# EAGLE library part 6510-1 (library commodore)
The famous 6510 CPU. There are some differences between the 6510, 6510-1 and the 6510-2. The -1 and -2 versions have a slightly changed pinout and 2 IO-bits more than the 6510!
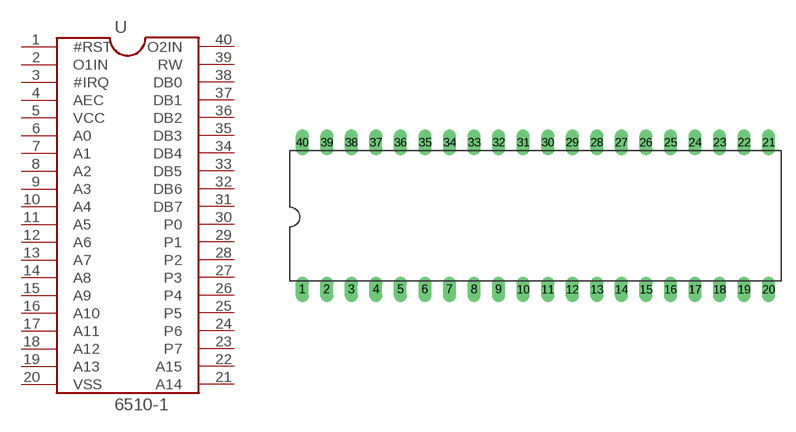
[diagram p13: symbol with the pads of DIL40; footprint DIL40]

Designator prefix -

## 6510-1  [DIL40]
1  #RST
2  O1IN
3  #IRQ
4  AEC
5  VCC
6  A0
7  A1
8  A2
9  A3
10  A4
11  A5
12  A6
13  A7
14  A8
15  A9
16  A10
17  A11
18  A12
19  A13
20  VSS
21  A14
22  A15
23  P7
24  P6
25  P5
26  P4
27  P3
28  P2
29  P1
30  P0
31  DB7
32  DB6
33  DB5
34  DB4
35  DB3
36  DB2
37  DB1
38  DB0
39  RW
40  O2IN

## Footprint DIL40 (pad centres in mm)
Dual In Line Package
drill 0.813 long: 1 -24.13,-7.62; 2 -21.59,-7.62; 3 -19.05,-7.62; 4 -16.51,-7.62; 5 -13.97,-7.62; 6 -11.43,-7.62; 7 -8.89,-7.62; 8 -6.35,-7.62; 9 -3.81,-7.62; 10 -1.27,-7.62; 11 1.27,-7.62; 12 3.81,-7.62; 13 6.35,-7.62; 14 8.89,-7.62; 15 11.43,-7.62; 16 13.97,-7.62; 17 16.51,-7.62; 18 19.05,-7.62; 19 21.59,-7.62; 20 24.13,-7.62; 21 24.13,7.62; 22 21.59,7.62; 23 19.05,7.62; 24 16.51,7.62; 25 13.97,7.62; 26 11.43,7.62; 27 8.89,7.62; 28 6.35,7.62; 29 3.81,7.62; 30 1.27,7.62; 31 -1.27,7.62; 32 -3.81,7.62; 33 -6.35,7.62; 34 -8.89,7.62; 35 -11.43,7.62; 36 -13.97,7.62; 37 -16.51,7.62; 38 -19.05,7.62; 39 -21.59,7.62; 40 -24.13,7.62